# Altium footprint library gateway2.PcbLib: 43 footprints (part 1 of 3)
Each footprint in its own frame and in the unit in brackets; x right, y up, seen from the top. Pads: shape width x height; smd on the part's side, far side on the other; paste and mask are expansions set on the pad; w line width, h text height; cw(c..) or ccw(c..) is an arc to the next point about the centre after c.
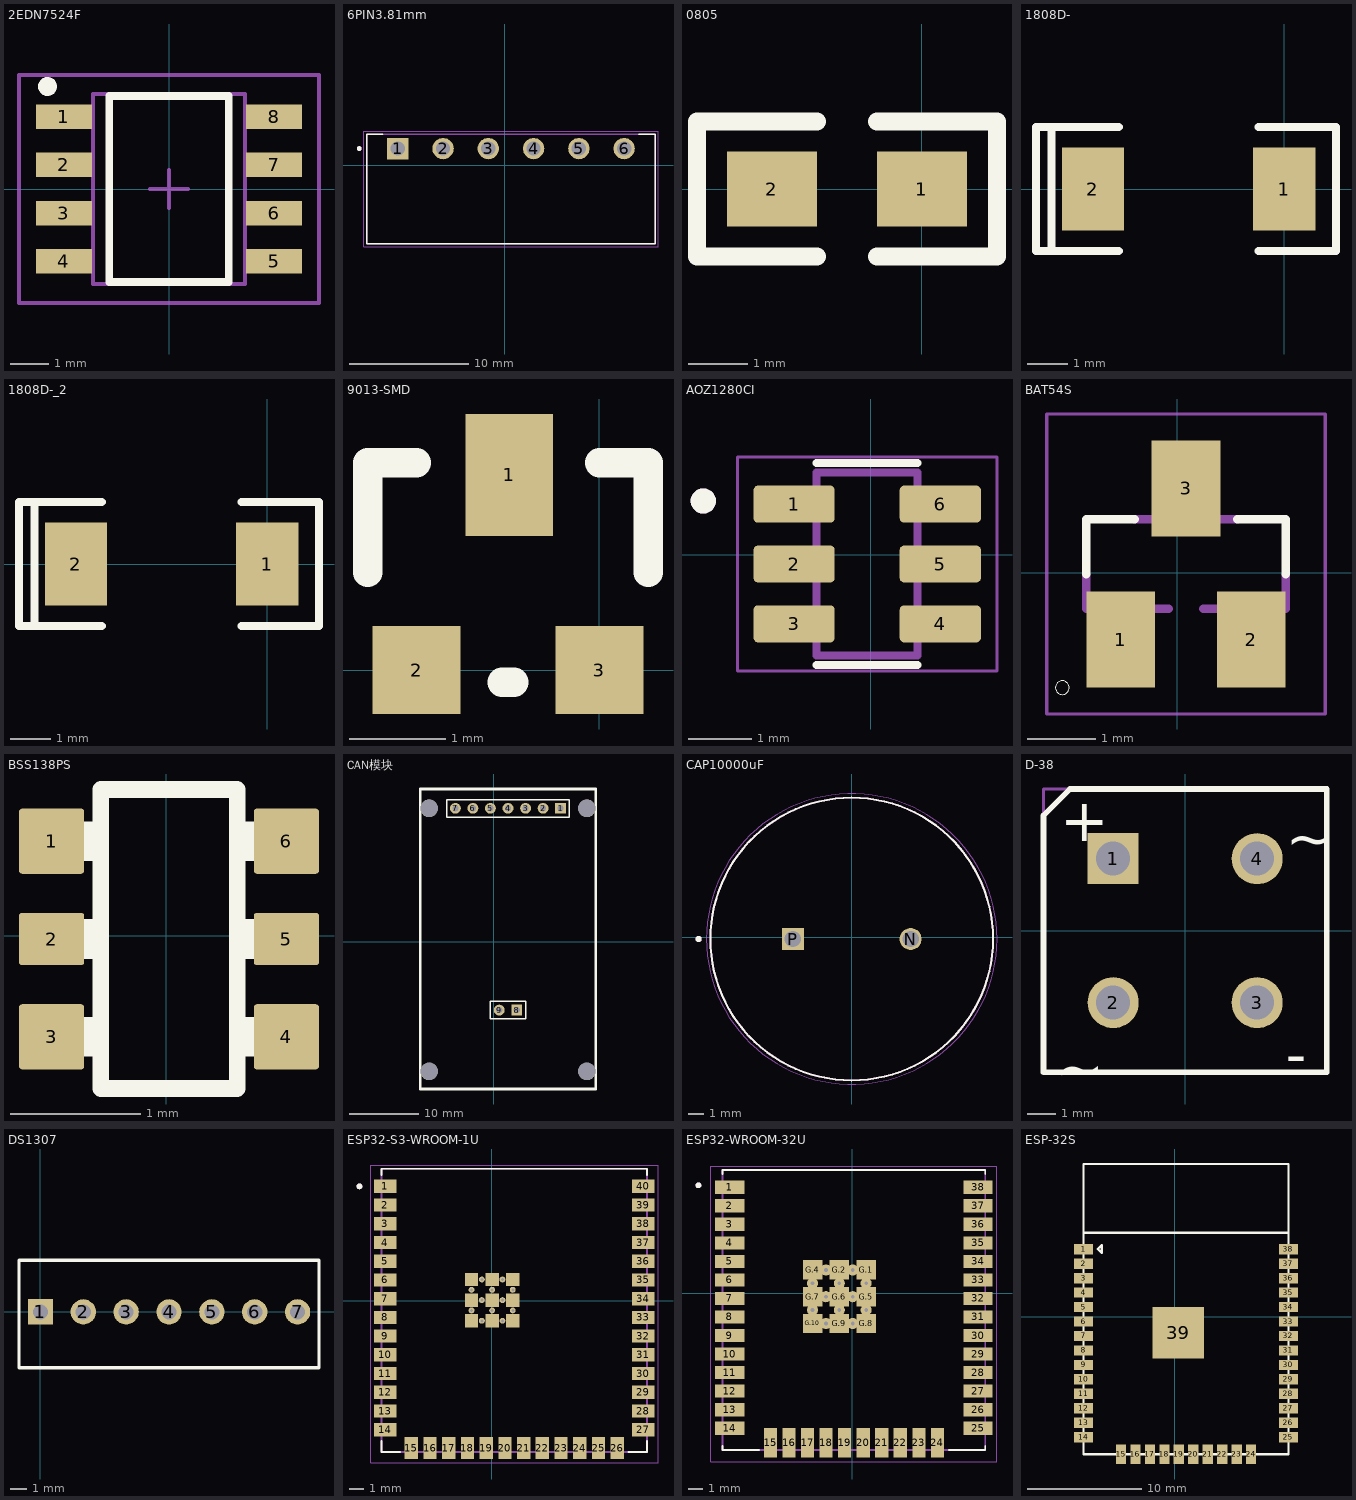
[diagram p0: the footprints below, top view; thin cyan lines are the x and y axes]

## 2EDN7524F [mm]
pads (8):
  rect 1.47x0.65 smd: 1(-2.765,1.905) 2(-2.765,0.635) 3(-2.765,-0.635) 4(-2.765,-1.905) 5(2.765,-1.905) 6(2.765,-0.635) 7(2.765,0.635) 8(2.765,1.905)
Top Overlay:
  circle w0.25: c-3.2,2.7 r0.125
  lines w0.2: -1.575,-2.45 -1.575,2.45 1.575,2.45 1.575,-2.45 -1.575,-2.45
Mechanical 13:
  lines w0.1: -0.5,0 0.5,0 ; 0,-0.5 0,0.5 ; -2,-2.5 2,-2.5 2,2.5 -2,2.5 -2,-2.5
Mechanical 15:
  lines w0.1: -3.95,-3 -3.95,3 3.95,3 3.95,-3 -3.95,-3

## 6PIN3.81mm [mm]
pads (6):
  rect 1.8x1.8 hole 1.2: 1(-9.017,1.397)
  round 1.8 hole 1.2: 2(-5.207,1.397) 3(-1.397,1.397) 4(2.413,1.397) 5(6.223,1.397) 6(10.033,1.397)
Top Overlay:
  circle w0.2: c-12.267,1.397 r0.1
  lines w0.127: -10.267,2.597 -11.617,2.597 -11.617,-6.603 12.633,-6.603 12.633,2.597 11.283,2.597
Mechanical 13:
  circle w0.2: c-12.267,1.397 r0.1
  lines w0.127: -11.617,-6.603 -11.617,2.597 12.633,2.597 12.633,-6.603 -11.617,-6.603
Mechanical 15:
  lines w0.05: -11.867,-6.853 12.883,-6.853 12.883,2.847 -11.867,2.847 -11.867,-6.853

## 0805 [mil]
pads (2):
  rect 60x50 smd: 1(0,0) 2(-100,0)
Top Overlay:
  lines w12: -70,-45 -150,-45 -150,45 -70,45 ; -30,-45 50,-45 50,45 -30,45

## 1808D- [mil]
pads (2):
  rect 60x80 smd: 1(0,0) 2(-185,0)
Top Overlay:
  lines w8: -225,-60 -225,60 ; -160,-60 -240,-60 -240,60 -160,60 ; -25,-60 50,-60 50,60 -25,60

## 1808D-_2 [mil]
pads (2):
  rect 60x80 smd: 1(0,0) 2(-185,0)
Top Overlay:
  lines w8: -225,-60 -225,60 ; -160,-60 -240,-60 -240,60 -160,60 ; -25,-60 50,-60 50,60 -25,60

## 9013-SMD [mil]
pads (3):
  rect 36x50 smd: 1(-37,80)
  rect 36x36 smd: 2(-75,0) 3(0,0)
Top Overlay:
  lines w12: -95,40 -95,85 -75,85 ; -40,-5 -35,-5 ; 0,85 20,85 20,40

## AOZ1280CI [mm]
pads (6):
  rrect25% 1.29x0.59 smd: 1(-1.217,0.802) 2(-1.217,-0.148) 3(-1.217,-1.098) 4(1.103,-1.098) 5(1.103,-0.148) 6(1.103,0.802)
Top Overlay:
  circle w0.2: c-2.657,0.852 r0.1
  lines w0.127: -0.857,-1.748 0.743,-1.748 ; -0.857,1.452 0.743,1.452
Mechanical 13:
  circle w0.2: c-2.657,0.852 r0.1
  lines w0.127: -0.857,-1.598 -0.857,1.302 0.743,1.302 0.743,-1.598 -0.857,-1.598
Mechanical 15:
  lines w0.05: -2.117,-1.848 2.003,-1.848 2.003,1.552 -2.117,1.552 -2.117,-1.848

## BAT54S [mm]
pads (3):
  rect 1x1.4 smd: 1(-0.823,-0.973) 2(1.077,-0.973) 3(0.127,1.227)
Top Overlay:
  circle w0: c-1.673,-1.673 r0.1
  lines w0.127: -1.323,-0.023 -1.323,0.777 -0.623,0.777 ; 0.877,0.777 1.577,0.777 1.577,-0.023
Mechanical 13:
  region: 0.356,0.84 -0.102,0.84 -0.102,1.422 0.356,1.422
  region: 1.295,-1.17 0.839,-1.17 0.839,-0.584 1.295,-0.584
  region: -0.584,-1.171 -1.044,-1.171 -1.044,-0.584 -0.584,-0.584
  lines w0.127: -1.323,-0.023 -1.323,-0.523 -0.123,-0.523 ; -0.623,0.777 0.877,0.777 ; 0.377,-0.523 1.577,-0.523 1.577,-0.023
Mechanical 15:
  lines w0.051: -1.896,-2.056 2.15,-2.056 2.15,2.31 -1.896,2.31 -1.896,-2.056

## BSS138PS [mm]
pads (6):
  rrect10% 0.5x0.5 smd: 1(-0.877,0.725) 3(-0.877,-0.775) 4(0.923,-0.775) 6(0.923,0.725)
  rrect10% 0.5x0.4 smd: 2(-0.877,-0.025) 5(0.923,-0.025)
Top Overlay:
  region: -0.527,0.575 -0.927,0.575 -0.927,0.875 -0.527,0.875
  region: -0.527,-0.175 -0.927,-0.175 -0.927,0.125 -0.527,0.125
  region: -0.527,-0.925 -0.927,-0.925 -0.927,-0.625 -0.527,-0.625
  region: 0.973,-0.925 0.573,-0.925 0.573,-0.625 0.973,-0.625
  region: 0.973,-0.175 0.573,-0.175 0.573,0.125 0.973,0.125
  region: 0.973,0.575 0.573,0.575 0.573,0.875 0.973,0.875
  lines w0.127: -0.5,-1.171 0.546,-1.171 0.546,1.121 -0.5,1.121 -0.5,-1.171

## CAN模块 [mil]
pads (13):
  rect 62x62 hole 35 paste+0 mask+4: 1(380,760) 8(130,-390)
  round 62 hole 35 paste+0 mask+4: 2(280,760) 3(180,760) 4(80,760) 5(-20,760) 6(-120,760) 7(-220,760) 9(30,-390)
  round 100 hole 100 unplated paste+0: ""(-370,-740) ""(-370,760) ""(530,-740) ""(530,760)
Top Overlay:
  lines w7.99: -270,710 355,710 ; -20,-440 105,-440
  lines w8: -270,710 -270,810 430,810 430,710 355,710 ; -20,-440 -20,-340 180,-340 180,-440 105,-440
  lines w15: -420,-840 580,-840 580,870 -420,870 -420,-840

## CAP10000uF [mm]
pads (2):
  round 1.4 hole 1.05: N(3.75,-0.127)
  rect 1.4x1.4 hole 1.05: P(-3.75,-0.127)
Top Overlay:
  circle w0.2: c-9.75,-0.127 r0.1
  circle w0.127: c0,-0.127 r9
Mechanical 13:
  circle w0.2: c-9.75,-0.127 r0.1
  circle w0.127: c0,-0.127 r9
Mechanical 15:
  circle w0.05: c0,-0.127 r9.25
3D body "step_temp.STEP": height 35.5, standoff -17, extent -9,-9.123 9,8.869

## D-38 [mm] "Bridge Rectifier; 4 Terminals; Body 9.4 x 9.4 mm (typ); Pitch 5.08 mm"
height 9.91
pads (4):
  rect 1.8x1.8 hole 1.2: 1(-2.54,2.54)
  round 1.8 hole 1.2: 2(-2.54,-2.54) 3(2.54,-2.54) 4(2.54,2.54)
Top Overlay:
  lines w0.2: -5,-5 5,-5 5,5 -4.064,5 -5,4.064 -5,-5
  text "~" at 3.556,2.54 h1.5
  text "~" at -4.572,-5.588 h1.5
  text "-" at 3.556,-5.08 h1.5
  text "+" at -4.41,3.164 h1.5
Mechanical 13:
  lines w0.1: -5,-5 5,-5 5,5 -5,5 -5,-5
3D body: height 9.91, standoff 0, extent -5,-5 5,5

## DS1307 [mm] "Connector; Header; 7 Position"
pads (7):
  rect 1.5x1.5 hole 0.9: 1(0,0)
  round 1.5 hole 0.9: 2(2.54,0) 3(5.08,0) 4(7.62,0) 5(10.16,0) 6(12.7,0) 7(15.24,0)
Top Overlay:
  lines w0.2: -1.27,-3.302 -1.27,3.048 16.51,3.048 16.51,-3.302 -1.27,-3.302

## ESP32-S3-WROOM-1U [mm]
pads (61):
  rect 1.5x0.9 smd: 1(-7.226,7.775) 2(-7.226,6.505) 3(-7.226,5.235) 4(-7.226,3.965) 5(-7.226,2.695) 6(-7.226,1.425) 7(-7.226,0.155) 8(-7.226,-1.115) 9(-7.226,-2.385) 10(-7.226,-3.655) 11(-7.226,-4.925) 12(-7.226,-6.195) 13(-7.226,-7.465) 14(-7.226,-8.735) 27(10.274,-8.735) 28(10.274,-7.465) 29(10.274,-6.195) 30(10.274,-4.925) 31(10.274,-3.655) 32(10.274,-2.385) 33(10.274,-1.115) 34(10.274,0.155) 35(10.274,1.425) 36(10.274,2.695) 37(10.274,3.965) 38(10.274,5.235) 39(10.274,6.505) 40(10.274,7.775)
  rect 0.9x1.5 smd: 15(-5.461,-9.985) 16(-4.191,-9.985) 17(-2.921,-9.985) 18(-1.651,-9.985) 19(-0.381,-9.985) 20(0.889,-9.985) 21(2.159,-9.985) 22(3.429,-9.985) 23(4.699,-9.985) 24(5.969,-9.985) 25(7.239,-9.985) 26(8.509,-9.985)
  rect 0.9x0.9 smd: 41_1(-1.376,1.455) 41_2(0.024,1.455) 41_3(1.424,1.455) 41_4(-1.376,0.055) 41_5(0.024,0.055) 41_6(1.424,0.055) 41_7(-1.376,-1.345) 41_8(0.024,-1.345) 41_9(1.424,-1.345)
  round 0.4 hole 0.2 mask+0: 41_10(-0.676,1.455) 41_11(0.724,1.455) 41_12(-1.376,0.755) 41_13(0.024,0.755) 41_14(1.424,0.755) 41_15(-0.676,0.055) 41_16(0.724,0.055) 41_17(-1.376,-0.645) 41_18(0.024,-0.645) 41_19(1.424,-0.645) 41_20(-0.676,-1.345) 41_21(0.724,-1.345)
Top Overlay:
  circle w0.2: c-8.976,7.775 r0.1
  lines w0.127: -7.476,-9.505 -7.476,-10.235 -6.231,-10.235 ; -7.476,8.545 -7.476,8.965 10.524,8.965 10.524,8.545 ; 9.279,-10.235 10.524,-10.235 10.524,-9.505
Mechanical 13:
  circle w0.2: c-8.976,7.775 r0.1
  lines w0.127: -7.476,-10.235 -7.476,8.965 10.524,8.965 10.524,-10.235 -7.476,-10.235
Mechanical 15:
  lines w0.05: -8.226,-10.985 11.274,-10.985 11.274,9.215 -8.226,9.215 -8.226,-10.985

## ESP32-WROOM-32U [mm]
pads (59):
  rect 2x0.9 smd: 1(-8.373,7.267) 2(-8.373,5.997) 3(-8.373,4.727) 4(-8.373,3.457) 5(-8.373,2.187) 6(-8.373,0.917) 7(-8.373,-0.353) 8(-8.373,-1.623) 9(-8.373,-2.893) 10(-8.373,-4.163) 11(-8.373,-5.433) 12(-8.373,-6.703) 13(-8.373,-7.973) 14(-8.373,-9.243) 25(8.627,-9.243) 26(8.627,-7.973) 27(8.627,-6.703) 28(8.627,-5.433) 29(8.627,-4.163) 30(8.627,-2.893) 31(8.627,-1.623) 32(8.627,-0.353) 33(8.627,0.917) 34(8.627,2.187) 35(8.627,3.457) 36(8.627,4.727) 37(8.627,5.997) 38(8.627,7.267)
  rect 0.9x2 smd: 15(-5.588,-10.243) 16(-4.318,-10.243) 17(-3.048,-10.243) 18(-1.778,-10.243) 19(-0.508,-10.243) 20(0.762,-10.243) 21(2.032,-10.243) 22(3.302,-10.243) 23(4.572,-10.243) 24(5.842,-10.243)
  rect 1.33x1.33 smd: G.1(0.962,1.602) G.2(-0.873,1.602) G.4(-2.708,1.602) G.5(0.962,-0.233) G.6(-0.873,-0.233) G.7(-2.708,-0.233) G.8(0.962,-2.068) G.9(-0.873,-2.068) G.10(-2.708,-2.068)
  round 0.762 hole 0.254: G.11(0.045,1.602) G.12(-1.79,1.602) G.13(0.962,0.684) G.14(-0.873,0.684) G.15(-2.708,0.684) G.16(0.045,-0.233) G.17(-1.79,-0.233) G.18(0.962,-1.151) G.19(-0.873,-1.151) G.20(-2.708,-1.151) G.21(0.045,-2.068) G.22(-1.79,-2.068)
Top Overlay:
  circle w0.2: c-10.523,7.397 r0.1
  lines w0.127: -8.873,-10.443 -8.873,-10.743 -6.363,-10.743 ; -8.873,8.157 -8.873,8.457 9.127,8.457 9.127,8.157 ; 6.617,-10.743 9.127,-10.743 9.127,-10.443
Mechanical 13:
  circle w0.2: c-10.523,7.397 r0.1
  lines w0.127: -8.873,-10.743 9.127,-10.743 9.127,8.457 -8.873,8.457 -8.873,-10.743
Mechanical 15:
  lines w0.05: -9.673,-11.543 9.927,-11.543 9.927,8.707 -9.673,8.707 -9.673,-11.543

## ESP-32S [mm]
pads (39):
  rect 1.7x0.9 smd: 1(-8.009,5.937) 2(-8.009,4.667) 3(-8.009,3.397) 4(-8.009,2.127) 5(-8.009,0.857) 6(-8.009,-0.413) 7(-8.009,-1.683) 8(-8.009,-2.953) 9(-8.009,-4.223) 10(-8.009,-5.493) 11(-8.009,-6.763) 12(-8.009,-8.033) 13(-8.009,-9.303) 14(-8.009,-10.573) 25(9.991,-10.573) 26(9.991,-9.303) 27(9.991,-8.033) 28(9.991,-6.763) 29(9.991,-5.493) 30(9.991,-4.223) 31(9.991,-2.953) 32(9.991,-1.683) 33(9.991,-0.413) 34(9.991,0.857) 35(9.991,2.127) 36(9.991,3.397) 37(9.991,4.667) 38(9.991,5.937)
  rect 0.9x1.7 smd: 15(-4.719,-12.083) 16(-3.449,-12.083) 17(-2.179,-12.083) 18(-0.909,-12.083) 19(0.361,-12.083) 20(1.631,-12.083) 21(2.901,-12.083) 22(4.171,-12.083) 23(5.441,-12.083) 24(6.711,-12.083)
  rect 4.5x4.5 smd: 39(0.311,-1.403)
Top Overlay:
  lines w0.2: -8.009,7.377 9.991,7.377 ; -8.009,-12.073 -8.009,13.427 9.991,13.427 9.991,-12.073 -8.009,-12.073 ; -6.759,5.957 -6.409,5.607 -6.409,6.307 -6.759,5.957